# Altium footprint library 3557-2.PcbLib: 1 footprints
Each footprint in its own frame and in the unit in brackets; x right, y up, seen from the top. Pads: shape width x height; smd on the part's side, far side on the other; paste and mask are expansions set on the pad; w line width, h text height; cw(c..) or ccw(c..) is an arc to the next point about the centre after c.
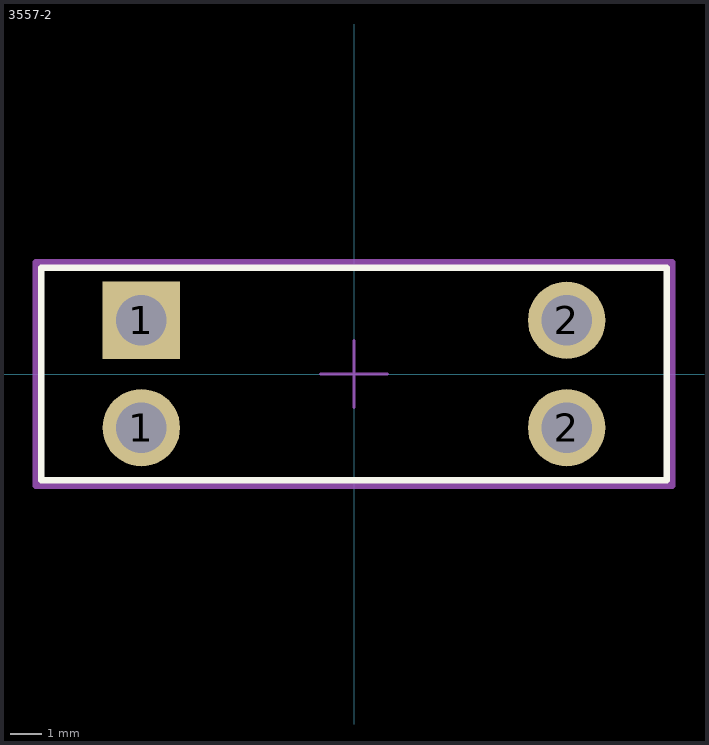
[diagram p0: the footprint, top view; thin cyan lines are the x and y axes]

## 3557-2 [mm]
pads (4):
  round 2.45 hole 1.6 paste-1000 mask+0: 1(-6.735,-1.7) 2(6.735,-1.7) 2(6.735,1.7)
  rect 2.45x2.45 hole 1.6 paste-1000 mask+0: 1(-6.735,1.7)
Top Overlay:
  lines w0.2: -9.905,-3.365 9.905,-3.365 9.905,3.365 -9.905,3.365 -9.905,-3.365
Top Assembly:
  lines w0.1: -1.062,0 1.062,0 ; 0,-1.062 0,1.062
  lines w0.15: -9.905,-3.365 -9.905,3.365 9.905,3.365 9.905,-3.365 -9.905,-3.365
Top Courtyard:
  lines w0.2: -10.08,-3.54 -10.08,3.54 ; -10.08,-3.54 10.08,-3.54 ; -10.08,-3.54 -10.08,3.54 ; -10.08,-3.54 10.08,-3.54 ; -10.08,3.54 10.08,3.54 ; -10.08,3.54 10.08,3.54 ; 10.08,-3.54 10.08,3.54 ; 10.08,-3.54 10.08,3.54
3D body "Fuse_Keystone_3557-2_eec.STEP": height 7.39, standoff -2.77, extent -9.88,-3.33 9.93,3.4